# Altium schematic symbol library Connectors.SchLib: 21 symbols
Pins are listed as number, name and electrical type; pins without a type are passive.

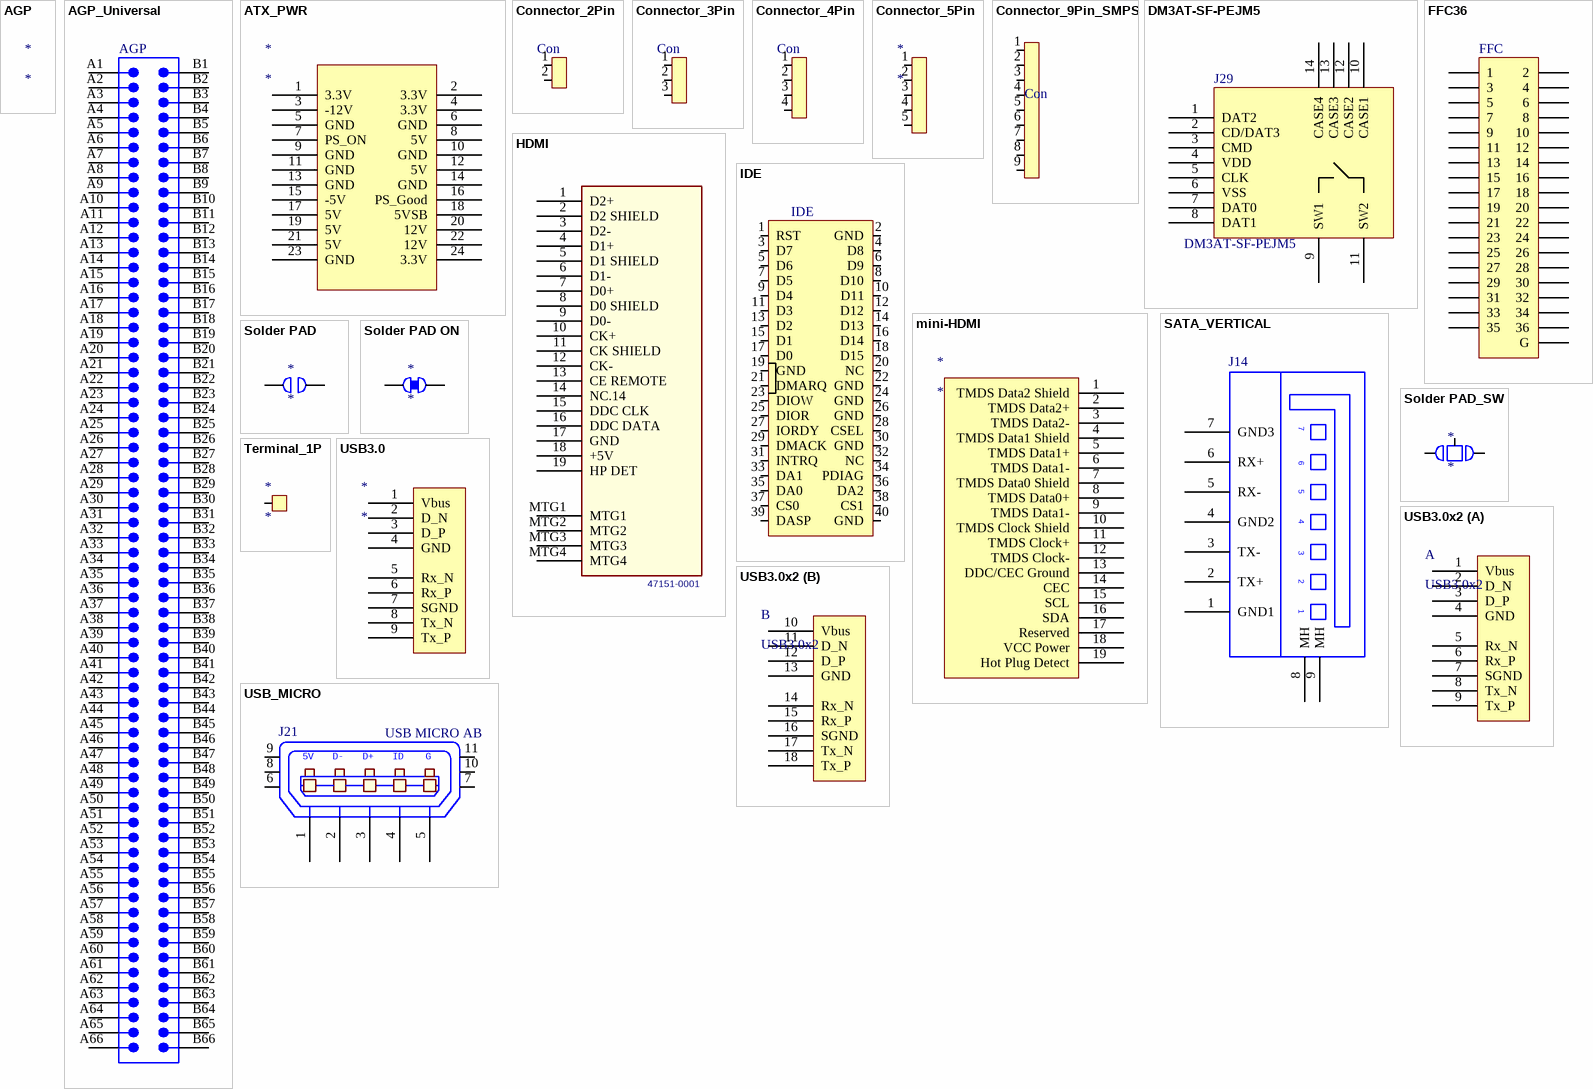
[diagram p0: symbols AGP to USB_MICRO]

## AGP
designator *

## AGP_Universal
designator AGP
footprint AGP_1
pins: A1, A2, A3, A4, A5, A6, A7, A8, A9, A10, A11, A12, A13, A14, A15, A16, A17, A18, A19, A20, A21, A22, A23, A24, A25, A26, A27, A28, A29, A30, A31, A32, A33, A34, A35, A36, A37, A38, A39, A40, A41, A42, A43, A44, A45, A46, A47, A48, A49, A50, A51, A52, A53, A54, A55, A56, A57, A58, A59, A60, A61, A62, A63, A64, A65, A66, B1, B2, B3, B4, B5, B6, B7, B8, B9, B10, B11, B12, B13, B14, B15, B16, B17, B18, B19, B20, B21, B22, B23, B24, B25, B26, B27, B28, B29, B30, B31, B32, B33, B34, B35, B36, B37, B38, B39, B40, B41, B42, B43, B44, B45, B46, B47, B48, B49, B50, B51, B52, B53, B54, B55, B56, B57, B58, B59, B60, B61, B62, B63, B64, B65, B66
1 alternate drawing of the same symbol

## ATX_PWR
designator *
footprint ATX
pins: 1 3.3V, 2 3.3V, 3 -12V, 4 3.3V, 5 GND, 6 GND, 7 PS_ON, 8 5V, 9 GND, 10 GND, 11 GND, 12 5V, 13 GND, 14 GND, 15 -5V, 16 PS_Good, 17 5V, 18 5VSB, 19 5V, 20 12V, 21 5V, 22 12V, 23 GND, 24 3.3V

## Connector_2Pin
designator Con, comment KF301 2P  (value not drawn)
footprint Connector_2Pin
footprint KF1000_2P
footprint KF45C_2P
pins: 1, 2

## Connector_3Pin
designator Con, comment KF301 3P  (value not drawn)
footprint Connector_3Pin
footprint KF45C_3P
footprint KF1000_3P
pins: 1, 2, 3

## Connector_4Pin
designator Con  (value not drawn)
footprint Connector_4Pin
footprint KF1000_4P
pins: 1, 2, 3, 4

## Connector_5Pin
designator *
footprint KF1000_5P
pins: 1, 2, 3, 4, 5

## Connector_9Pin_SMPS
designator Con  (value not drawn)
footprint Connector_4Pin
pins: 1, 2, 3, 4, 5, 6, 7, 8, 9

## DM3AT-SF-PEJM5
designator J29
CONN MICRO SD R/A PUSH-PUSH SMD; Manufacturer: Hirose Electric Co Ltd; .Checked PCB: MM; Connector Type: Connector and Ejector; Card Type: Secure Digital - microSD TransFlash; Number of Positions: 10 (8 + 2); Insertion, Removal Method: Push In, Push Out; .Checked SCH: MM; Category: Connectors, Interconnects; Supplier Part Number: HR1964CT-ND; Family: Memory - PC Card Connectors; Manufacturer Part Number: DM3AT-SF-PEJM5; Price 1k [$]: 1.85200; Supplier: Digikey; Supplier 1: Digi-Key; Supplier Part Number 1: HR1964CT-ND; RoHS: RoHS Compliant; Stock 1: 7044; Pricing 1: 1=2.96, 10=2.457, 50=2.0476, 100=1.82, 250=1.5106, 500=1.365 (USD); Ejector Side: -; Mounting Type: Surface Mount, Right Angle; Features: Switch; Height Above Board: 0.066" (1.68mm); Mounting Feature: Normal, Standard - Top; Packaging: Cut Tape (CT); Contact Finish: Gold; Contact Finish Thickness: -; ComponentLink1URL: http://www.hirose.co.jp/cataloge_hp/e60900232.pdf; ComponentLink1Description: http://www.hirose.co.jp/cataloge_hp/e60900232.pdf
footprint uSD_DM3AT (MM added 3D model & asmbly layer.)
pins: 1 DAT2, 2 CD/DAT3, 3 CMD, 4 VDD, 5 CLK, 6 VSS, 7 DAT0, 8 DAT1, 9 SW1, 10 CASE1, 11 SW2, 12 CASE2, 13 CASE3, 14 CASE4

## FFC36
designator FFC
LatestRevisionDate: 17-Jul-2002; LatestRevisionNote: Re-released for DXP Platform.; Publisher: Altium Limited
signal-integrity model Connector
footprint FFC_36
pins: 1, 2, 3, 4, 5, 6, 7, 8, 9, 10, 11, 12, 13, 14, 15, 16, 17, 18, 19, 20, 21, 22, 23, 24, 25, 26, 27, 28, 29, 30, 31, 32, 33, 34, 35, 36, G

## HDMI
designator ?, comment 47151-0001
CONN RCPT 19POS HDMI RT ANG SMD; Manufacturer: Molex Connector Corporation; .Checked PCB: used; Number of Positions: 19; Pitch: 0.50mm (.020"); Gender: Receptacle; .Checked SCH: used; Category: Connectors, Interconnects; Connector Type: HDMI; Family: USB, IEEE-1394 (Firewire), DVI, HDMI; Manufacturer Part Number: 47151-0001; Price 1k [$]: 1.74610; Supplier: Digikey; Supplier Part Number: WM19086CT-ND; Value: 47151-0001; Supplier 1: Digi-Key; Supplier Part Number 1: WM19086CT-ND; RoHS: RoHS Compliant; Stock 1: 2756; Pricing 1: 1=3.1, 10=2.57, 50=2.1456, 100=1.9034 (USD); Number of Contacts: 19; Specifications: -; Mounting Type: Surface Mount, Right Angle, Horizontal; Features: Detent Lock; Packaging: Cut Tape (CT); Ingress Protection: -; ComponentLink1URL: http://www.molex.com/pdm_docs/sd/471510001_sd.pdf; ComponentLink1Description: http://www.molex.com/pdm_docs/sd/471510001_sd.pdf
footprint HDMI
pins: 1 D2+, 2 D2 SHIELD, 3 D2-, 4 D1+, 5 D1 SHIELD, 6 D1-, 7 D0+, 8 D0 SHIELD, 9 D0-, 10 CK+, 11 CK SHIELD, 12 CK-, 13 CE REMOTE, 14 NC.14, 15 DDC CLK, 16 DDC DATA, 17 GND, 18 +5V, 19 HP DET, MTG1, MTG2, MTG3, MTG4

## IDE
designator IDE
footprint HDR2X20 (Connector; Header; 20x2 Position)
signal-integrity model Connector
pins: 1 RST, 2 GND, 3 D7, 4 D8, 5 D6, 6 D9, 7 D5, 8 D10, 9 D4, 10 D11, 11 D3, 12 D12, 13 D2, 14 D13, 15 D1, 16 D14, 17 D0, 18 D15, 19 GND, 20 NC, 21 DMARQ, 22 GND, 23 DIOW, 24 GND, 25 DIOR, 26 GND, 27 IORDY, 28 CSEL, 29 DMACK, 30 GND, 31 INTRQ, 32 NC, 33 DA1, 34 PDIAG, 35 DA0, 36 DA2, 37 CS0, 38 CS1, 39 DASP, 40 GND

## mini-HDMI
designator *
footprint HDMI_FEMALE
pins: 1 TMDS Data2 Shield, 2 TMDS Data2+, 3 TMDS Data2-, 4 TMDS Data1 Shield, 5 TMDS Data1+, 6 TMDS Data1-, 7 TMDS Data0 Shield, 8 TMDS Data0+, 9 TMDS Data1-, 10 TMDS Clock Shield, 11 TMDS Clock+, 12 TMDS Clock-, 13 DDC/CEC Ground, 14 CEC, 15 SCL, 16 SDA, 17 Reserved, 18 VCC Power, 19 Hot Plug Detect

## SATA_VERTICAL
designator J14
CONN SATA HDR 7POS PCB VERT; Manufacturer: Molex Inc; Manufacturer Part Number: 0471554001; Connector Style: Header, Shrouded; Number of Positions: 7; .Checked PCB: RF; Supplier 1: Digi-Key; Supplier Part Number 1: WM4059-ND; RoHS: RoHS Compliant; Category: Connectors, Interconnects; Stock 1: 8065; Pricing 1: 1=1.37, 10=1.065, 25=0.9928, 50=0.9026, 100=0.8123, 250=0.68592, 500=0.6498, 1000=0.5776, 2500=0.48013 (USD); Connector Type: SATA; Mounting Type: Through Hole; Termination: Solder; Features: Board Lock; Contact Finish: Gold; Contact Finish Thickness: Flash; Packaging: Tray; ComponentLink1URL: http://www.molex.com/elqNow/elqRedir.htm?ref=http://www.molex.com/pdm_docs/sd/471554001_sd.pdf; ComponentLink1Description: http://www.molex.com/elqNow/elqRedir.htm?ref=http://www.molex.com/pdm_docs/sd/471554001_sd.pdf; .Checked SCH: RF
footprint SATA_VERTICAL
pins: 1 GND1, 2 TX+, 3 TX-, 4 GND2, 5 RX-, 6 RX+, 7 GND3, 8 MH, 9 MH

## Solder PAD
designator *
footprint 0805
pins: 1, 2

## Solder PAD ON
designator *
footprint 0805
pins: 1, 2

## Solder PAD_SW
designator *
footprint SOLDERPADSWITCH
pins: 1, 2, 3

## Terminal_1P
designator *
footprint 710-7466103 (M3)
footprint 710-7466203 (M3)
pins: 1

## USB3.0
designator *
footprint USB_TypeA3.0
pins: 1 Vbus, 2 D_N, 3 D_P, 4 GND, 5 Rx_N, 6 Rx_P, 7 SGND, 8 Tx_N, 9 Tx_P

## USB3.0x2
designator ?
footprint USB-2A_3.0
part A pins: 1 Vbus, 2 D_N, 3 D_P, 4 GND, 5 Rx_N, 6 Rx_P, 7 SGND, 8 Tx_N, 9 Tx_P
part B pins: 10 Vbus, 11 D_N, 12 D_P, 13 GND, 14 Rx_N, 15 Rx_P, 16 SGND, 17 Tx_N, 18 Tx_P

## USB_MICRO
designator J21, comment USB MICRO AB
CONN RCPT MICRO USB AB R/A SMD; Manufacturer: Molex Inc; Manufacturer Part Number: 0475890001; Connector Type: USB - micro AB; Number of Contacts: 5; Gender: Receptacle; .Creator: MM; Supplier 1: Digi-Key; RoHS: RoHS Compliant; Category: Connectors, Interconnects; Stock 1: 12754; Pricing 1: 1=0.81, 10=0.764, 25=0.6872, 50=0.6108, 100=0.5854, 250=0.53452, 500=0.50908 (USD); Packaging: Cut Tape (CT); Specifications: -; Mounting Type: Surface Mount, Right Angle, Horizontal; Features: Board Guide, Shielded; Ingress Protection: -; ComponentLink1URL: http://www.molex.com/pdm_docs/sd/475890001_sd.pdf; ComponentLink1Description: http://www.molex.com/pdm_docs/sd/475890001_sd.pdf; Supplier Part Number 1: WM17143CT-ND; .Checked PCB: MM; .Checked SCH: MM
footprint USB_Micro_AB (Creator MM)
pins: 1 P1, 2 P2, 3 P3, 4 P4, 5 P5, 6, 7, 8, 9, 10, 11
text: 5V; D-; D+; ID; G